# Altium footprint library BGA292C80P20X20_1700X1700X170.PcbLib: 1 footprints
Each footprint in its own frame and in the unit in brackets; x right, y up, seen from the top. Pads: shape width x height; smd on the part's side, far side on the other; paste and mask are expansions set on the pad; w line width, h text height; cw(c..) or ccw(c..) is an arc to the next point about the centre after c.
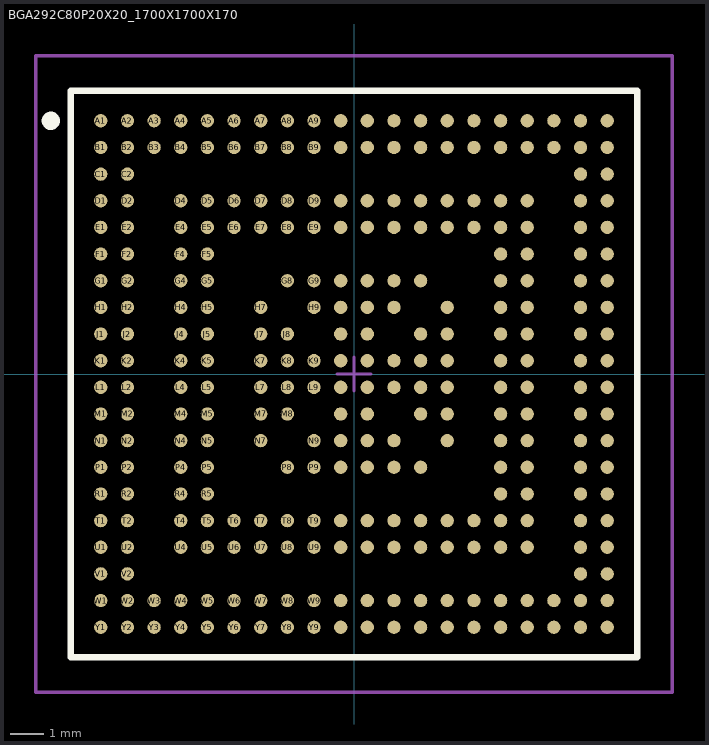
[diagram p0: the footprint, top view; thin cyan lines are the x and y axes]

## BGA292C80P20X20_1700X1700X170 [mm] "BGA,0.80mm pitch,square;292 pin,20 columns X 20 rows,17.00mm X 17.00mm X 1.70mm H"
height 1.7
pads (292):
  round 0.4 smd paste+0 mask+0: A1(-7.6,7.6) A2(-6.8,7.6) A3(-6,7.6) A4(-5.2,7.6) A5(-4.4,7.6) A6(-3.6,7.6) A7(-2.8,7.6) A8(-2,7.6) A9(-1.2,7.6) A10(-0.4,7.6) A11(0.4,7.6) A12(1.2,7.6) A13(2,7.6) A14(2.8,7.6) A15(3.6,7.6) A16(4.4,7.6) A17(5.2,7.6) A18(6,7.6) A19(6.8,7.6) A20(7.6,7.6) B1(-7.6,6.8) B2(-6.8,6.8) B3(-6,6.8) B4(-5.2,6.8) B5(-4.4,6.8) B6(-3.6,6.8) B7(-2.8,6.8) B8(-2,6.8) B9(-1.2,6.8) B10(-0.4,6.8) B11(0.4,6.8) B12(1.2,6.8) B13(2,6.8) B14(2.8,6.8) B15(3.6,6.8) B16(4.4,6.8) B17(5.2,6.8) B18(6,6.8) B19(6.8,6.8) B20(7.6,6.8) C1(-7.6,6) C2(-6.8,6) C19(6.8,6) C20(7.6,6) D1(-7.6,5.2) D2(-6.8,5.2) D4(-5.2,5.2) D5(-4.4,5.2) D6(-3.6,5.2) D7(-2.8,5.2) D8(-2,5.2) D9(-1.2,5.2) D10(-0.4,5.2) D11(0.4,5.2) D12(1.2,5.2) D13(2,5.2) D14(2.8,5.2) D15(3.6,5.2) D16(4.4,5.2) D17(5.2,5.2) D19(6.8,5.2) D20(7.6,5.2) E1(-7.6,4.4) E2(-6.8,4.4) E4(-5.2,4.4) E5(-4.4,4.4) E6(-3.6,4.4) E7(-2.8,4.4) E8(-2,4.4) E9(-1.2,4.4) E10(-0.4,4.4) E11(0.4,4.4) E12(1.2,4.4) E13(2,4.4) E14(2.8,4.4) E15(3.6,4.4) E16(4.4,4.4) E17(5.2,4.4) E19(6.8,4.4) E20(7.6,4.4) F1(-7.6,3.6) F2(-6.8,3.6) F4(-5.2,3.6) F5(-4.4,3.6) F16(4.4,3.6) F17(5.2,3.6) F19(6.8,3.6) F20(7.6,3.6) G1(-7.6,2.8) G2(-6.8,2.8) G4(-5.2,2.8) G5(-4.4,2.8) G8(-2,2.8) G9(-1.2,2.8) G10(-0.4,2.8) G11(0.4,2.8) G12(1.2,2.8) G13(2,2.8) G16(4.4,2.8) G17(5.2,2.8) G19(6.8,2.8) G20(7.6,2.8) H1(-7.6,2) H2(-6.8,2) H4(-5.2,2) H5(-4.4,2) H7(-2.8,2) H9(-1.2,2) H10(-0.4,2) H11(0.4,2) H12(1.2,2) H14(2.8,2) H16(4.4,2) H17(5.2,2) H19(6.8,2) H20(7.6,2) J1(-7.6,1.2) J2(-6.8,1.2) J4(-5.2,1.2) J5(-4.4,1.2) J7(-2.8,1.2) J8(-2,1.2) J10(-0.4,1.2) J11(0.4,1.2) J13(2,1.2) J14(2.8,1.2) J16(4.4,1.2) J17(5.2,1.2) J19(6.8,1.2) J20(7.6,1.2) K1(-7.6,0.4) K2(-6.8,0.4) K4(-5.2,0.4) K5(-4.4,0.4) K7(-2.8,0.4) K8(-2,0.4) K9(-1.2,0.4) K10(-0.4,0.4) K11(0.4,0.4) K12(1.2,0.4) K13(2,0.4) K14(2.8,0.4) K16(4.4,0.4) K17(5.2,0.4) K19(6.8,0.4) K20(7.6,0.4) L1(-7.6,-0.4) L2(-6.8,-0.4) L4(-5.2,-0.4) L5(-4.4,-0.4) L7(-2.8,-0.4) L8(-2,-0.4) L9(-1.2,-0.4) L10(-0.4,-0.4) L11(0.4,-0.4) L12(1.2,-0.4) L13(2,-0.4) L14(2.8,-0.4) L16(4.4,-0.4) L17(5.2,-0.4) L19(6.8,-0.4) L20(7.6,-0.4) M1(-7.6,-1.2) M2(-6.8,-1.2) M4(-5.2,-1.2) M5(-4.4,-1.2) M7(-2.8,-1.2) M8(-2,-1.2) M10(-0.4,-1.2) M11(0.4,-1.2) M13(2,-1.2) M14(2.8,-1.2) M16(4.4,-1.2) M17(5.2,-1.2) M19(6.8,-1.2) M20(7.6,-1.2) N1(-7.6,-2) N2(-6.8,-2) N4(-5.2,-2) N5(-4.4,-2) N7(-2.8,-2) N9(-1.2,-2) N10(-0.4,-2) N11(0.4,-2) N12(1.2,-2) N14(2.8,-2) N16(4.4,-2) N17(5.2,-2) N19(6.8,-2) N20(7.6,-2) P1(-7.6,-2.8) P2(-6.8,-2.8) P4(-5.2,-2.8) P5(-4.4,-2.8) P8(-2,-2.8) P9(-1.2,-2.8) P10(-0.4,-2.8) P11(0.4,-2.8) P12(1.2,-2.8) P13(2,-2.8) P16(4.4,-2.8) P17(5.2,-2.8) P19(6.8,-2.8) P20(7.6,-2.8) R1(-7.6,-3.6) R2(-6.8,-3.6) R4(-5.2,-3.6) R5(-4.4,-3.6) R16(4.4,-3.6) R17(5.2,-3.6) R19(6.8,-3.6) R20(7.6,-3.6) T1(-7.6,-4.4) T2(-6.8,-4.4) T4(-5.2,-4.4) T5(-4.4,-4.4) T6(-3.6,-4.4) T7(-2.8,-4.4) T8(-2,-4.4) T9(-1.2,-4.4) T10(-0.4,-4.4) T11(0.4,-4.4) T12(1.2,-4.4) T13(2,-4.4) T14(2.8,-4.4) T15(3.6,-4.4) T16(4.4,-4.4) T17(5.2,-4.4) T19(6.8,-4.4) T20(7.6,-4.4) U1(-7.6,-5.2) U2(-6.8,-5.2) U4(-5.2,-5.2) U5(-4.4,-5.2) U6(-3.6,-5.2) U7(-2.8,-5.2) U8(-2,-5.2) U9(-1.2,-5.2) U10(-0.4,-5.2) U11(0.4,-5.2) U12(1.2,-5.2) U13(2,-5.2) U14(2.8,-5.2) U15(3.6,-5.2) U16(4.4,-5.2) U17(5.2,-5.2) U19(6.8,-5.2) U20(7.6,-5.2) V1(-7.6,-6) V2(-6.8,-6) V19(6.8,-6) V20(7.6,-6) W1(-7.6,-6.8) W2(-6.8,-6.8) W3(-6,-6.8) W4(-5.2,-6.8) W5(-4.4,-6.8) W6(-3.6,-6.8) W7(-2.8,-6.8) W8(-2,-6.8) W9(-1.2,-6.8) W10(-0.4,-6.8) W11(0.4,-6.8) W12(1.2,-6.8) W13(2,-6.8) W14(2.8,-6.8) W15(3.6,-6.8) W16(4.4,-6.8) W17(5.2,-6.8) W18(6,-6.8) W19(6.8,-6.8) W20(7.6,-6.8) Y1(-7.6,-7.6) Y2(-6.8,-7.6) Y3(-6,-7.6) Y4(-5.2,-7.6) Y5(-4.4,-7.6) Y6(-3.6,-7.6) Y7(-2.8,-7.6) Y8(-2,-7.6) Y9(-1.2,-7.6) Y10(-0.4,-7.6) Y11(0.4,-7.6) Y12(1.2,-7.6) Y13(2,-7.6) Y14(2.8,-7.6) Y15(3.6,-7.6) Y16(4.4,-7.6) Y17(5.2,-7.6) Y18(6,-7.6) Y19(6.8,-7.6) Y20(7.6,-7.6)
Top Overlay:
  circle w0.3: c-9.1,7.6 r0.125
  lines w0.2: -8.5,-8.5 -8.5,8.5 8.5,8.5 8.5,-8.5 -8.5,-8.5
M3 (ASY_Text_Top):
  text ".DESIGNATOR" at 0,0 h1.2
M13 (CMP_Body_OTL_Top):
  lines w0.1: -8.5,-8.5 -8.5,8.5 8.5,8.5 8.5,-8.5 -8.5,-8.5
M15 (CMP_Courtyard_Top):
  lines w0.1: -0.5,0 0.5,0 ; 0,-0.5 0,0.5 ; -9.55,-9.55 -9.55,9.55 9.55,9.55 9.55,-9.55 -9.55,-9.55
3D body: height 0.45, standoff -0.05, extent -7.847,7.351 -7.35,7.849
3D body: height 1.71, standoff 1.7, extent -7.92,7.28 -7.32,7.879
3D body: height 0.45, standoff -0.05, extent -7.847,6.551 -7.35,7.049
3D body: height 0.45, standoff -0.05, extent -7.047,6.551 -6.55,7.049
3D body: height 0.45, standoff -0.05, extent -7.047,7.351 -6.55,7.849
3D body: height 0.45, standoff -0.05, extent -6.247,7.351 -5.75,7.849
3D body: height 0.45, standoff -0.05, extent -6.247,6.551 -5.75,7.049
3D body: height 0.45, standoff -0.05, extent -5.447,7.351 -4.95,7.849
3D body: height 0.45, standoff -0.05, extent -5.447,6.551 -4.95,7.049
3D body: height 0.45, standoff -0.05, extent -4.647,7.351 -4.15,7.849
3D body: height 0.45, standoff -0.05, extent -4.647,6.551 -4.15,7.049
3D body: height 0.45, standoff -0.05, extent -3.847,7.351 -3.35,7.849
3D body: height 0.45, standoff -0.05, extent -3.847,6.551 -3.35,7.049
3D body: height 0.45, standoff -0.05, extent -3.047,7.351 -2.55,7.849
3D body: height 0.45, standoff -0.05, extent -3.047,6.551 -2.55,7.049
3D body: height 0.45, standoff -0.05, extent -2.247,7.351 -1.75,7.849
3D body: height 0.45, standoff -0.05, extent -2.247,6.551 -1.75,7.049
3D body: height 0.45, standoff -0.05, extent -1.447,7.351 -0.95,7.849
3D body: height 0.45, standoff -0.05, extent -1.447,6.551 -0.95,7.049
3D body: height 0.45, standoff -0.05, extent -0.647,7.351 -0.15,7.849
3D body: height 0.45, standoff -0.05, extent -0.647,6.551 -0.15,7.049
3D body: height 0.45, standoff -0.05, extent 0.153,7.351 0.65,7.849
3D body: height 0.45, standoff -0.05, extent 0.153,6.551 0.65,7.049
3D body: height 0.45, standoff -0.05, extent 0.953,7.351 1.45,7.849
3D body: height 0.45, standoff -0.05, extent 0.953,6.551 1.45,7.049
3D body: height 0.45, standoff -0.05, extent 1.753,7.351 2.25,7.849
3D body: height 0.45, standoff -0.05, extent 1.753,6.551 2.25,7.049
3D body: height 0.45, standoff -0.05, extent 2.553,7.351 3.05,7.849
3D body: height 0.45, standoff -0.05, extent 2.553,6.551 3.05,7.049
3D body: height 0.45, standoff -0.05, extent 3.353,7.351 3.85,7.849
3D body: height 0.45, standoff -0.05, extent 3.353,6.551 3.85,7.049
3D body: height 0.45, standoff -0.05, extent 4.153,7.351 4.65,7.849
3D body: height 0.45, standoff -0.05, extent 4.153,6.551 4.65,7.049
3D body: height 0.45, standoff -0.05, extent 4.953,7.351 5.45,7.849
3D body: height 0.45, standoff -0.05, extent 4.953,6.551 5.45,7.049
3D body: height 0.45, standoff -0.05, extent 5.753,7.351 6.25,7.849
3D body: height 0.45, standoff -0.05, extent 5.753,6.551 6.25,7.049
3D body: height 0.45, standoff -0.05, extent 6.553,7.351 7.05,7.849
3D body: height 0.45, standoff -0.05, extent 6.553,6.551 7.05,7.049
3D body: height 0.45, standoff -0.05, extent 7.353,7.351 7.85,7.849
3D body: height 0.45, standoff -0.05, extent 7.353,6.551 7.85,7.049
3D body: height 0.45, standoff -0.05, extent 6.553,5.751 7.05,6.249
3D body: height 0.45, standoff -0.05, extent 6.553,4.951 7.05,5.449
3D body: height 0.45, standoff -0.05, extent 6.553,4.151 7.05,4.649
3D body: height 0.45, standoff -0.05, extent 6.553,3.351 7.05,3.849
3D body: height 0.45, standoff -0.05, extent 6.553,2.551 7.05,3.049
3D body: height 0.45, standoff -0.05, extent 6.553,1.751 7.05,2.249
3D body: height 0.45, standoff -0.05, extent 6.553,0.951 7.05,1.449
3D body: height 0.45, standoff -0.05, extent 6.553,0.151 7.05,0.649
3D body: height 0.45, standoff -0.05, extent 6.553,-0.649 7.05,-0.151
3D body: height 0.45, standoff -0.05, extent 6.553,-1.449 7.05,-0.951
3D body: height 0.45, standoff -0.05, extent 6.553,-2.249 7.05,-1.751
3D body: height 0.45, standoff -0.05, extent 6.553,-3.049 7.05,-2.551
3D body: height 0.45, standoff -0.05, extent 6.553,-3.849 7.05,-3.351
3D body: height 0.45, standoff -0.05, extent 6.553,-4.649 7.05,-4.151
3D body: height 0.45, standoff -0.05, extent 6.553,-5.449 7.05,-4.951
3D body: height 0.45, standoff -0.05, extent 6.553,-6.249 7.05,-5.751
3D body: height 0.45, standoff -0.05, extent 6.553,-7.049 7.05,-6.551
3D body: height 0.45, standoff -0.05, extent 6.553,-7.849 7.05,-7.351
3D body: height 0.45, standoff -0.05, extent 7.353,-7.849 7.85,-7.351
3D body: height 0.45, standoff -0.05, extent 7.353,-7.049 7.85,-6.551
3D body: height 0.45, standoff -0.05, extent 7.353,-6.249 7.85,-5.751
3D body: height 0.45, standoff -0.05, extent 7.353,-5.449 7.85,-4.951
3D body: height 0.45, standoff -0.05, extent 7.353,-4.649 7.85,-4.151
3D body: height 0.45, standoff -0.05, extent 7.353,-3.849 7.85,-3.351
3D body: height 0.45, standoff -0.05, extent 7.353,-3.049 7.85,-2.551
3D body: height 0.45, standoff -0.05, extent 7.353,-2.249 7.85,-1.751
3D body: height 0.45, standoff -0.05, extent 7.353,-1.449 7.85,-0.951
3D body: height 0.45, standoff -0.05, extent 7.353,-0.649 7.85,-0.151
3D body: height 0.45, standoff -0.05, extent 7.353,0.151 7.85,0.649
3D body: height 0.45, standoff -0.05, extent 7.353,0.951 7.85,1.449
3D body: height 0.45, standoff -0.05, extent 7.353,1.751 7.85,2.249
3D body: height 0.45, standoff -0.05, extent 7.353,2.551 7.85,3.049
3D body: height 0.45, standoff -0.05, extent 7.353,3.351 7.85,3.849
3D body: height 0.45, standoff -0.05, extent 7.353,4.151 7.85,4.649
3D body: height 0.45, standoff -0.05, extent 7.353,4.951 7.85,5.449
3D body: height 0.45, standoff -0.05, extent 7.353,5.751 7.85,6.249
3D body: height 0.45, standoff -0.05, extent -7.847,-7.049 -7.35,-6.551
3D body: height 0.45, standoff -0.05, extent -7.847,-7.849 -7.35,-7.351
3D body: height 0.45, standoff -0.05, extent -7.047,-7.049 -6.55,-6.551
3D body: height 0.45, standoff -0.05, extent -7.047,-7.849 -6.55,-7.351
3D body: height 0.45, standoff -0.05, extent -6.247,-7.049 -5.75,-6.551
3D body: height 0.45, standoff -0.05, extent -6.247,-7.849 -5.75,-7.351
3D body: height 0.45, standoff -0.05, extent -5.447,-7.049 -4.95,-6.551
3D body: height 0.45, standoff -0.05, extent -5.447,-7.849 -4.95,-7.351
3D body: height 0.45, standoff -0.05, extent -4.647,-7.049 -4.15,-6.551
3D body: height 0.45, standoff -0.05, extent -4.647,-7.849 -4.15,-7.351
3D body: height 0.45, standoff -0.05, extent -3.847,-7.049 -3.35,-6.551
3D body: height 0.45, standoff -0.05, extent -3.847,-7.849 -3.35,-7.351
3D body: height 0.45, standoff -0.05, extent -3.047,-7.049 -2.55,-6.551
3D body: height 0.45, standoff -0.05, extent -3.047,-7.849 -2.55,-7.351
3D body: height 0.45, standoff -0.05, extent -2.247,-7.049 -1.75,-6.551
3D body: height 0.45, standoff -0.05, extent -2.247,-7.849 -1.75,-7.351
3D body: height 0.45, standoff -0.05, extent -1.447,-7.049 -0.95,-6.551
3D body: height 0.45, standoff -0.05, extent -1.447,-7.849 -0.95,-7.351
3D body: height 0.45, standoff -0.05, extent -0.647,-7.049 -0.15,-6.551
3D body: height 0.45, standoff -0.05, extent -0.647,-7.849 -0.15,-7.351
3D body: height 0.45, standoff -0.05, extent 0.153,-7.049 0.65,-6.551
3D body: height 0.45, standoff -0.05, extent 0.153,-7.849 0.65,-7.351
3D body: height 0.45, standoff -0.05, extent 0.953,-7.049 1.45,-6.551
3D body: height 0.45, standoff -0.05, extent 0.953,-7.849 1.45,-7.351
3D body: height 0.45, standoff -0.05, extent 1.753,-7.049 2.25,-6.551
3D body: height 0.45, standoff -0.05, extent 1.753,-7.849 2.25,-7.351
3D body: height 0.45, standoff -0.05, extent 2.553,-7.049 3.05,-6.551
3D body: height 0.45, standoff -0.05, extent 2.553,-7.849 3.05,-7.351
3D body: height 0.45, standoff -0.05, extent 3.353,-7.049 3.85,-6.551
3D body: height 0.45, standoff -0.05, extent 3.353,-7.849 3.85,-7.351
3D body: height 0.45, standoff -0.05, extent 4.153,-7.049 4.65,-6.551
3D body: height 0.45, standoff -0.05, extent 4.153,-7.849 4.65,-7.351
3D body: height 0.45, standoff -0.05, extent 4.953,-7.049 5.45,-6.551
3D body: height 0.45, standoff -0.05, extent 4.953,-7.849 5.45,-7.351
3D body: height 0.45, standoff -0.05, extent 5.753,-7.049 6.25,-6.551
3D body: height 0.45, standoff -0.05, extent 5.753,-7.849 6.25,-7.351
3D body: height 0.45, standoff -0.05, extent -7.847,5.751 -7.35,6.249
3D body: height 0.45, standoff -0.05, extent -7.847,4.951 -7.35,5.449
3D body: height 0.45, standoff -0.05, extent -7.847,4.151 -7.35,4.649
3D body: height 0.45, standoff -0.05, extent -7.847,3.351 -7.35,3.849
3D body: height 0.45, standoff -0.05, extent -7.847,2.551 -7.35,3.049
3D body: height 0.45, standoff -0.05, extent -7.847,1.751 -7.35,2.249
3D body: height 0.45, standoff -0.05, extent -7.847,0.951 -7.35,1.449
3D body: height 0.45, standoff -0.05, extent -7.847,0.151 -7.35,0.649
3D body: height 0.45, standoff -0.05, extent -7.847,-0.649 -7.35,-0.151
3D body: height 0.45, standoff -0.05, extent -7.847,-1.449 -7.35,-0.951
3D body: height 0.45, standoff -0.05, extent -7.847,-2.249 -7.35,-1.751
3D body: height 0.45, standoff -0.05, extent -7.847,-3.049 -7.35,-2.551
3D body: height 0.45, standoff -0.05, extent -7.847,-3.849 -7.35,-3.351
3D body: height 0.45, standoff -0.05, extent -7.847,-4.649 -7.35,-4.151
3D body: height 0.45, standoff -0.05, extent -7.847,-5.449 -7.35,-4.951
3D body: height 0.45, standoff -0.05, extent -7.047,-5.449 -6.55,-4.951
3D body: height 0.45, standoff -0.05, extent -7.047,-4.649 -6.55,-4.151
3D body: height 0.45, standoff -0.05, extent -7.047,-3.849 -6.55,-3.351
3D body: height 0.45, standoff -0.05, extent -7.047,-3.049 -6.55,-2.551
3D body: height 0.45, standoff -0.05, extent -7.047,-2.249 -6.55,-1.751
3D body: height 0.45, standoff -0.05, extent -7.047,-1.449 -6.55,-0.951
3D body: height 0.45, standoff -0.05, extent -7.047,-0.649 -6.55,-0.151
3D body: height 0.45, standoff -0.05, extent -7.047,0.151 -6.55,0.649
3D body: height 0.45, standoff -0.05, extent -7.047,0.951 -6.55,1.449
3D body: height 0.45, standoff -0.05, extent -7.047,1.751 -6.55,2.249
3D body: height 0.45, standoff -0.05, extent -7.047,2.551 -6.55,3.049
3D body: height 0.45, standoff -0.05, extent -7.047,3.351 -6.55,3.849
3D body: height 0.45, standoff -0.05, extent -7.047,4.151 -6.55,4.649
3D body: height 0.45, standoff -0.05, extent -7.047,4.951 -6.55,5.449
3D body: height 0.45, standoff -0.05, extent -7.047,5.751 -6.55,6.249
3D body: height 0.45, standoff -0.05, extent -5.447,4.951 -4.95,5.449
3D body: height 0.45, standoff -0.05, extent -5.447,4.151 -4.95,4.649
3D body: height 0.45, standoff -0.05, extent -5.447,3.351 -4.95,3.849
3D body: height 0.45, standoff -0.05, extent -5.447,2.551 -4.95,3.049
3D body: height 0.45, standoff -0.05, extent -5.447,1.751 -4.95,2.249
3D body: height 0.45, standoff -0.05, extent -5.447,0.951 -4.95,1.449
3D body: height 0.45, standoff -0.05, extent -5.447,0.151 -4.95,0.649
3D body: height 0.45, standoff -0.05, extent -5.447,-0.649 -4.95,-0.151
3D body: height 0.45, standoff -0.05, extent -5.447,-1.449 -4.95,-0.951
3D body: height 0.45, standoff -0.05, extent -5.447,-2.249 -4.95,-1.751
3D body: height 0.45, standoff -0.05, extent -5.447,-3.049 -4.95,-2.551
3D body: height 0.45, standoff -0.05, extent -5.447,-3.849 -4.95,-3.351
3D body: height 0.45, standoff -0.05, extent -5.447,-4.649 -4.95,-4.151
3D body: height 0.45, standoff -0.05, extent -5.447,-5.449 -4.95,-4.951
3D body: height 0.45, standoff -0.05, extent -4.647,-5.449 -4.15,-4.951
3D body: height 0.45, standoff -0.05, extent -4.647,-4.649 -4.15,-4.151
3D body: height 0.45, standoff -0.05, extent -4.647,-3.849 -4.15,-3.351
3D body: height 0.45, standoff -0.05, extent -4.647,-3.049 -4.15,-2.551
3D body: height 0.45, standoff -0.05, extent -4.647,-2.249 -4.15,-1.751
3D body: height 0.45, standoff -0.05, extent -4.647,-1.449 -4.15,-0.951
3D body: height 0.45, standoff -0.05, extent -4.647,-0.649 -4.15,-0.151
3D body: height 0.45, standoff -0.05, extent -4.647,0.151 -4.15,0.649
3D body: height 0.45, standoff -0.05, extent -4.647,0.951 -4.15,1.449
3D body: height 0.45, standoff -0.05, extent -4.647,1.751 -4.15,2.249
3D body: height 0.45, standoff -0.05, extent -4.647,2.551 -4.15,3.049
3D body: height 0.45, standoff -0.05, extent -4.647,3.351 -4.15,3.849
3D body: height 0.45, standoff -0.05, extent -4.647,4.151 -4.15,4.649
3D body: height 0.45, standoff -0.05, extent -4.647,4.951 -4.15,5.449
3D body: height 0.45, standoff -0.05, extent 4.153,4.951 4.65,5.449
3D body: height 0.45, standoff -0.05, extent 4.153,4.149 4.65,4.647
3D body: height 0.45, standoff -0.05, extent 4.153,3.351 4.65,3.849
3D body: height 0.45, standoff -0.05, extent 4.153,2.551 4.65,3.049
3D body: height 0.45, standoff -0.05, extent 4.153,1.751 4.65,2.249
3D body: height 0.45, standoff -0.05, extent 4.153,0.951 4.65,1.449
3D body: height 0.45, standoff -0.05, extent 4.153,0.151 4.65,0.649
3D body: height 0.45, standoff -0.05, extent 4.153,-0.649 4.65,-0.151
3D body: height 0.45, standoff -0.05, extent 4.153,-1.449 4.65,-0.951
3D body: height 0.45, standoff -0.05, extent 4.153,-2.249 4.65,-1.751
3D body: height 0.45, standoff -0.05, extent 4.153,-3.049 4.65,-2.551
3D body: height 0.45, standoff -0.05, extent 4.153,-3.849 4.65,-3.351
3D body: height 0.45, standoff -0.05, extent 4.153,-4.649 4.65,-4.151
3D body: height 0.45, standoff -0.05, extent 4.153,-5.449 4.65,-4.951
3D body: height 0.45, standoff -0.05, extent 4.953,-5.449 5.45,-4.951
3D body: height 0.45, standoff -0.05, extent 4.953,-4.649 5.45,-4.151
3D body: height 0.45, standoff -0.05, extent 4.953,-3.849 5.45,-3.351
3D body: height 0.45, standoff -0.05, extent 4.953,-3.049 5.45,-2.551
3D body: height 0.45, standoff -0.05, extent 4.953,-2.249 5.45,-1.751
3D body: height 0.45, standoff -0.05, extent 4.953,-1.449 5.45,-0.951
3D body: height 0.45, standoff -0.05, extent 4.953,-0.649 5.45,-0.151
3D body: height 0.45, standoff -0.05, extent 4.953,0.151 5.45,0.649
3D body: height 0.45, standoff -0.05, extent 4.953,0.951 5.45,1.449
3D body: height 0.45, standoff -0.05, extent 4.953,1.751 5.45,2.249
3D body: height 0.45, standoff -0.05, extent 4.953,2.551 5.45,3.049
3D body: height 0.45, standoff -0.05, extent 4.953,3.351 5.45,3.849
3D body: height 0.45, standoff -0.05, extent 4.953,4.151 5.45,4.649
3D body: height 0.45, standoff -0.05, extent 4.953,4.951 5.45,5.449
3D body: height 0.45, standoff -0.05, extent -3.847,4.951 -3.35,5.449
3D body: height 0.45, standoff -0.05, extent -3.847,4.151 -3.35,4.649
3D body: height 0.45, standoff -0.05, extent -3.847,-4.649 -3.35,-4.151
3D body: height 0.45, standoff -0.05, extent -3.847,-5.449 -3.35,-4.951
3D body: height 0.45, standoff -0.05, extent -3.047,-5.449 -2.55,-4.951
3D body: height 0.45, standoff -0.05, extent -3.047,-4.649 -2.55,-4.151
3D body: height 0.45, standoff -0.05, extent -3.047,-2.249 -2.55,-1.751
3D body: height 0.45, standoff -0.05, extent -3.047,-1.449 -2.55,-0.951
3D body: height 0.45, standoff -0.05, extent -3.047,-0.649 -2.55,-0.151
3D body: height 0.45, standoff -0.05, extent -3.047,0.151 -2.55,0.649
3D body: height 0.45, standoff -0.05, extent -3.047,0.951 -2.55,1.449
3D body: height 0.45, standoff -0.05, extent -3.047,1.751 -2.55,2.249
3D body: height 0.45, standoff -0.05, extent -3.047,4.151 -2.55,4.649
3D body: height 0.45, standoff -0.05, extent -3.047,4.951 -2.55,5.449
3D body: height 0.45, standoff -0.05, extent -2.247,4.951 -1.75,5.449
3D body: height 0.45, standoff -0.05, extent -2.247,4.151 -1.75,4.649
3D body: height 0.45, standoff -0.05, extent -2.267,2.531 -1.77,3.029
3D body: height 0.45, standoff -0.05, extent -2.247,0.951 -1.75,1.449
3D body: height 0.45, standoff -0.05, extent -2.247,0.151 -1.75,0.649
3D body: height 0.45, standoff -0.05, extent -2.247,-0.649 -1.75,-0.151
3D body: height 0.45, standoff -0.05, extent -2.247,-1.449 -1.75,-0.951
3D body: height 0.45, standoff -0.05, extent -2.247,-3.049 -1.75,-2.551
3D body: height 0.45, standoff -0.05, extent -2.247,-4.649 -1.75,-4.151
3D body: height 0.45, standoff -0.05, extent -2.247,-5.449 -1.75,-4.951
3D body: height 0.45, standoff -0.05, extent -1.447,4.951 -0.95,5.449
3D body: height 0.45, standoff -0.05, extent -1.447,4.151 -0.95,4.649
3D body: height 0.45, standoff -0.05, extent -1.467,2.531 -0.97,3.029
3D body: height 0.45, standoff -0.05, extent -1.447,1.751 -0.95,2.249
3D body: height 0.45, standoff -0.05, extent -1.447,0.151 -0.95,0.649
3D body: height 0.45, standoff -0.05, extent -1.447,-0.649 -0.95,-0.151
3D body: height 0.45, standoff -0.05, extent -1.447,-2.249 -0.95,-1.751
3D body: height 0.45, standoff -0.05, extent -1.447,-3.049 -0.95,-2.551
3D body: height 0.45, standoff -0.05, extent -1.447,-4.649 -0.95,-4.151
3D body: height 0.45, standoff -0.05, extent -1.447,-5.449 -0.95,-4.951
3D body: height 0.45, standoff -0.05, extent -0.647,4.951 -0.15,5.449
3D body: height 0.45, standoff -0.05, extent -0.647,4.151 -0.15,4.649
3D body: height 0.45, standoff -0.05, extent -0.667,2.531 -0.17,3.029
3D body: height 0.45, standoff -0.05, extent -0.647,1.751 -0.15,2.249
3D body: height 0.45, standoff -0.05, extent -0.647,0.951 -0.15,1.449
3D body: height 0.45, standoff -0.05, extent -0.647,0.151 -0.15,0.649
3D body: height 0.45, standoff -0.05, extent -0.647,-0.649 -0.15,-0.151
3D body: height 0.45, standoff -0.05, extent -0.647,-1.449 -0.15,-0.951
3D body: height 0.45, standoff -0.05, extent -0.647,-2.249 -0.15,-1.751
3D body: height 0.45, standoff -0.05, extent -0.647,-3.049 -0.15,-2.551
3D body: height 0.45, standoff -0.05, extent -0.647,-4.649 -0.15,-4.151
3D body: height 0.45, standoff -0.05, extent -0.647,-5.449 -0.15,-4.951
3D body: height 0.45, standoff -0.05, extent 0.153,4.951 0.65,5.449
3D body: height 0.45, standoff -0.05, extent 0.153,4.151 0.65,4.649
3D body: height 0.45, standoff -0.05, extent 0.133,2.531 0.63,3.029
3D body: height 0.45, standoff -0.05, extent 0.153,1.751 0.65,2.249
3D body: height 0.45, standoff -0.05, extent 0.153,0.951 0.65,1.449
3D body: height 0.45, standoff -0.05, extent 0.153,0.151 0.65,0.649
3D body: height 0.45, standoff -0.05, extent 0.153,-0.649 0.65,-0.151
3D body: height 0.45, standoff -0.05, extent 0.153,-1.449 0.65,-0.951
3D body: height 0.45, standoff -0.05, extent 0.153,-2.249 0.65,-1.751
3D body: height 0.45, standoff -0.05, extent 0.153,-3.049 0.65,-2.551
3D body: height 0.45, standoff -0.05, extent 0.153,-4.649 0.65,-4.151
3D body: height 0.45, standoff -0.05, extent 0.153,-5.449 0.65,-4.951
3D body: height 0.45, standoff -0.05, extent 0.953,4.951 1.45,5.449
3D body: height 0.45, standoff -0.05, extent 0.953,4.151 1.45,4.649
3D body: height 0.45, standoff -0.05, extent 0.933,2.531 1.43,3.029
3D body: height 0.45, standoff -0.05, extent 0.953,1.751 1.45,2.249
3D body: height 0.45, standoff -0.05, extent 0.953,0.151 1.45,0.649
3D body: height 0.45, standoff -0.05, extent 0.953,-0.649 1.45,-0.151
3D body: height 0.45, standoff -0.05, extent 0.953,-2.249 1.45,-1.751
3D body: height 0.45, standoff -0.05, extent 0.953,-3.049 1.45,-2.551
3D body: height 0.45, standoff -0.05, extent 0.953,-4.649 1.45,-4.151
3D body: height 0.45, standoff -0.05, extent 0.953,-5.449 1.45,-4.951
3D body: height 0.45, standoff -0.05, extent 1.753,4.951 2.25,5.449
3D body: height 0.45, standoff -0.05, extent 1.753,4.151 2.25,4.649
3D body: height 0.45, standoff -0.05, extent 1.733,2.531 2.23,3.029
3D body: height 0.45, standoff -0.05, extent 1.753,0.951 2.25,1.449
3D body: height 0.45, standoff -0.05, extent 1.753,0.151 2.25,0.649
3D body: height 0.45, standoff -0.05, extent 1.753,-0.649 2.25,-0.151
3D body: height 0.45, standoff -0.05, extent 1.753,-1.449 2.25,-0.951
3D body: height 0.45, standoff -0.05, extent 1.753,-3.049 2.25,-2.551
3D body: height 0.45, standoff -0.05, extent 1.753,-4.649 2.25,-4.151
3D body: height 0.45, standoff -0.05, extent 1.753,-5.449 2.25,-4.951
3D body: height 0.45, standoff -0.05, extent 2.553,4.951 3.05,5.449
3D body: height 0.45, standoff -0.05, extent 2.553,4.151 3.05,4.649
3D body: height 0.45, standoff -0.05, extent 2.553,1.751 3.05,2.249
3D body: height 0.45, standoff -0.05, extent 2.553,0.951 3.05,1.449
3D body: height 0.45, standoff -0.05, extent 2.553,0.151 3.05,0.649
3D body: height 0.45, standoff -0.05, extent 2.553,-0.649 3.05,-0.151
3D body: height 0.45, standoff -0.05, extent 2.553,-1.449 3.05,-0.951
3D body: height 0.45, standoff -0.05, extent 2.553,-2.249 3.05,-1.751
3D body: height 0.45, standoff -0.05, extent 2.553,-4.649 3.05,-4.151
3D body: height 0.45, standoff -0.05, extent 2.553,-5.449 3.05,-4.951
3D body: height 0.45, standoff -0.05, extent 3.353,4.951 3.85,5.449
3D body: height 0.45, standoff -0.05, extent 3.353,4.151 3.85,4.649
3D body: height 0.45, standoff -0.05, extent 3.353,-4.649 3.85,-4.151
3D body: height 0.45, standoff -0.05, extent 3.353,-5.449 3.85,-4.951
3D body: height 0.45, standoff -0.05, extent -7.047,-6.249 -6.55,-5.751
3D body: height 0.45, standoff -0.05, extent -7.847,-6.249 -7.35,-5.751
3D body: height 1.7, standoff 0.33, extent -8.52,-8.52 8.479,8.479
3D body: height 1.71, standoff 1.7, extent 4.571,4.676 5.513,5.478
3D body: height 1.71, standoff 1.7, extent 5.68,4.98 6.28,5.579
3D body: height 1.71, standoff 1.7, extent 4.261,4.056 6.122,6.258